# Altium integrated library USB-connector.IntLib: 1 symbol
Pins are listed as number, name and electrical type; pins without a type are passive.

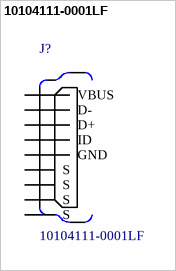
[diagram p0: symbol 10104111-0001LF]

## 10104111-0001LF
designator J?
Micro Usb, 2.0 Type Ab, Receptacle, Th; MF: Amphenol FCI; Digi-Key_Part_Number: 609-4053-1-ND; SnapEDA_Link: https://www.snapeda.com/parts/10104111-0001LF/Amphenol%20FCI/view-part/?ref=snap; Package: None; Digi-Key_Purchase_URL: https://www.digikey.com/product-detail/en/amphenol-fci/10104111-0001LF/609-4053-1-ND/2350359?utm_source=snapeda&utm_medium=aggregator&utm_campaign=symbol; MP: 10104111-0001LF; Value: *
footprint FRAMATOME_10104111-0001LF
pins: 1 VBUS (power), 2 D-, 3 D+, 4 ID, 5 GND (power), 6 S (power), 7 S (power), 8 S (power), 9 S (power)